# EAGLE library part MD20B (library stepper-driver-module)
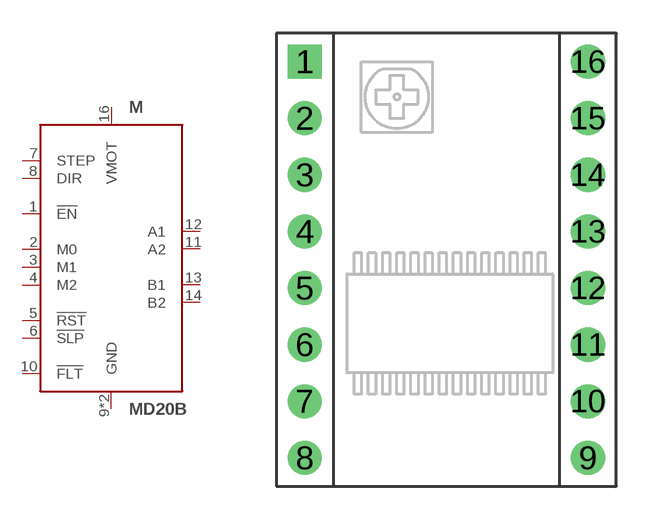
[diagram p0: symbol with the pads of MD20B; footprint MD20B]

Designator prefix M

## MD20B  [MD20B]
1  !EN  in
2  M0  in
3  M1  in
4  M2  in
5  !RST  in
6  !SLP  in
7  STEP  in
8  DIR  in
9  GND  pwr
10  !FLT
11  A2  out
12  A1  out
13  B1  out
14  B2  out
15  GND  pwr
16  VMOT  in

## Footprint MD20B (pad centres in mm)
drill 1.02 square: 1 -6.35,8.89
drill 1.02: 2 -6.35,6.35; 3 -6.35,3.81; 4 -6.35,1.27; 5 -6.35,-1.27; 6 -6.35,-3.81; 7 -6.35,-6.35; 8 -6.35,-8.89; 9 6.35,-8.89; 10 6.35,-6.35; 11 6.35,-3.81; 12 6.35,-1.27; 13 6.35,1.27; 14 6.35,3.81; 15 6.35,6.35; 16 6.35,8.89